# EAGLE library part JP6-FLAT (library eagleparts)
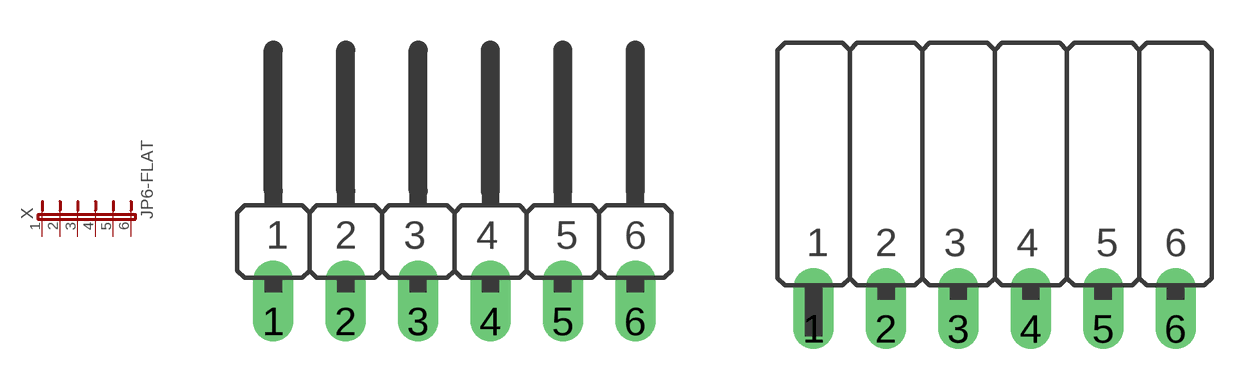
[diagram p2: symbol with the pads of JP6F; footprints JP6F, JP6F-FEM]

Designator prefix X

## JP6-FLAT  [JP6F]
1  1  pas
2  2  pas
3  3  pas
4  4  pas
5  5  pas
6  6  pas

## JP6-FLATFEMALE  [JP6F-FEM]
Pads as for JP6F

## Footprint JP6F (pad centres in mm)
drill 0.914 offset: 1 -8.89,0; 2 -6.35,0; 3 -3.81,0; 4 -1.27,0; 5 1.27,0; 6 3.81,0

## Footprint JP6F-FEM (pad centres in mm)
drill 0.914 offset: 1 -8.89,0; 2 -6.35,0; 3 -3.81,0; 4 -1.27,0; 5 1.27,0; 6 3.81,0